# Altium footprint library Footprint.PcbLib: 139 footprints (part 5 of 9)
Each footprint in its own frame and in the unit in brackets; x right, y up, seen from the top. Pads: shape width x height; smd on the part's side, far side on the other; paste and mask are expansions set on the pad; w line width, h text height; cw(c..) or ccw(c..) is an arc to the next point about the centre after c.
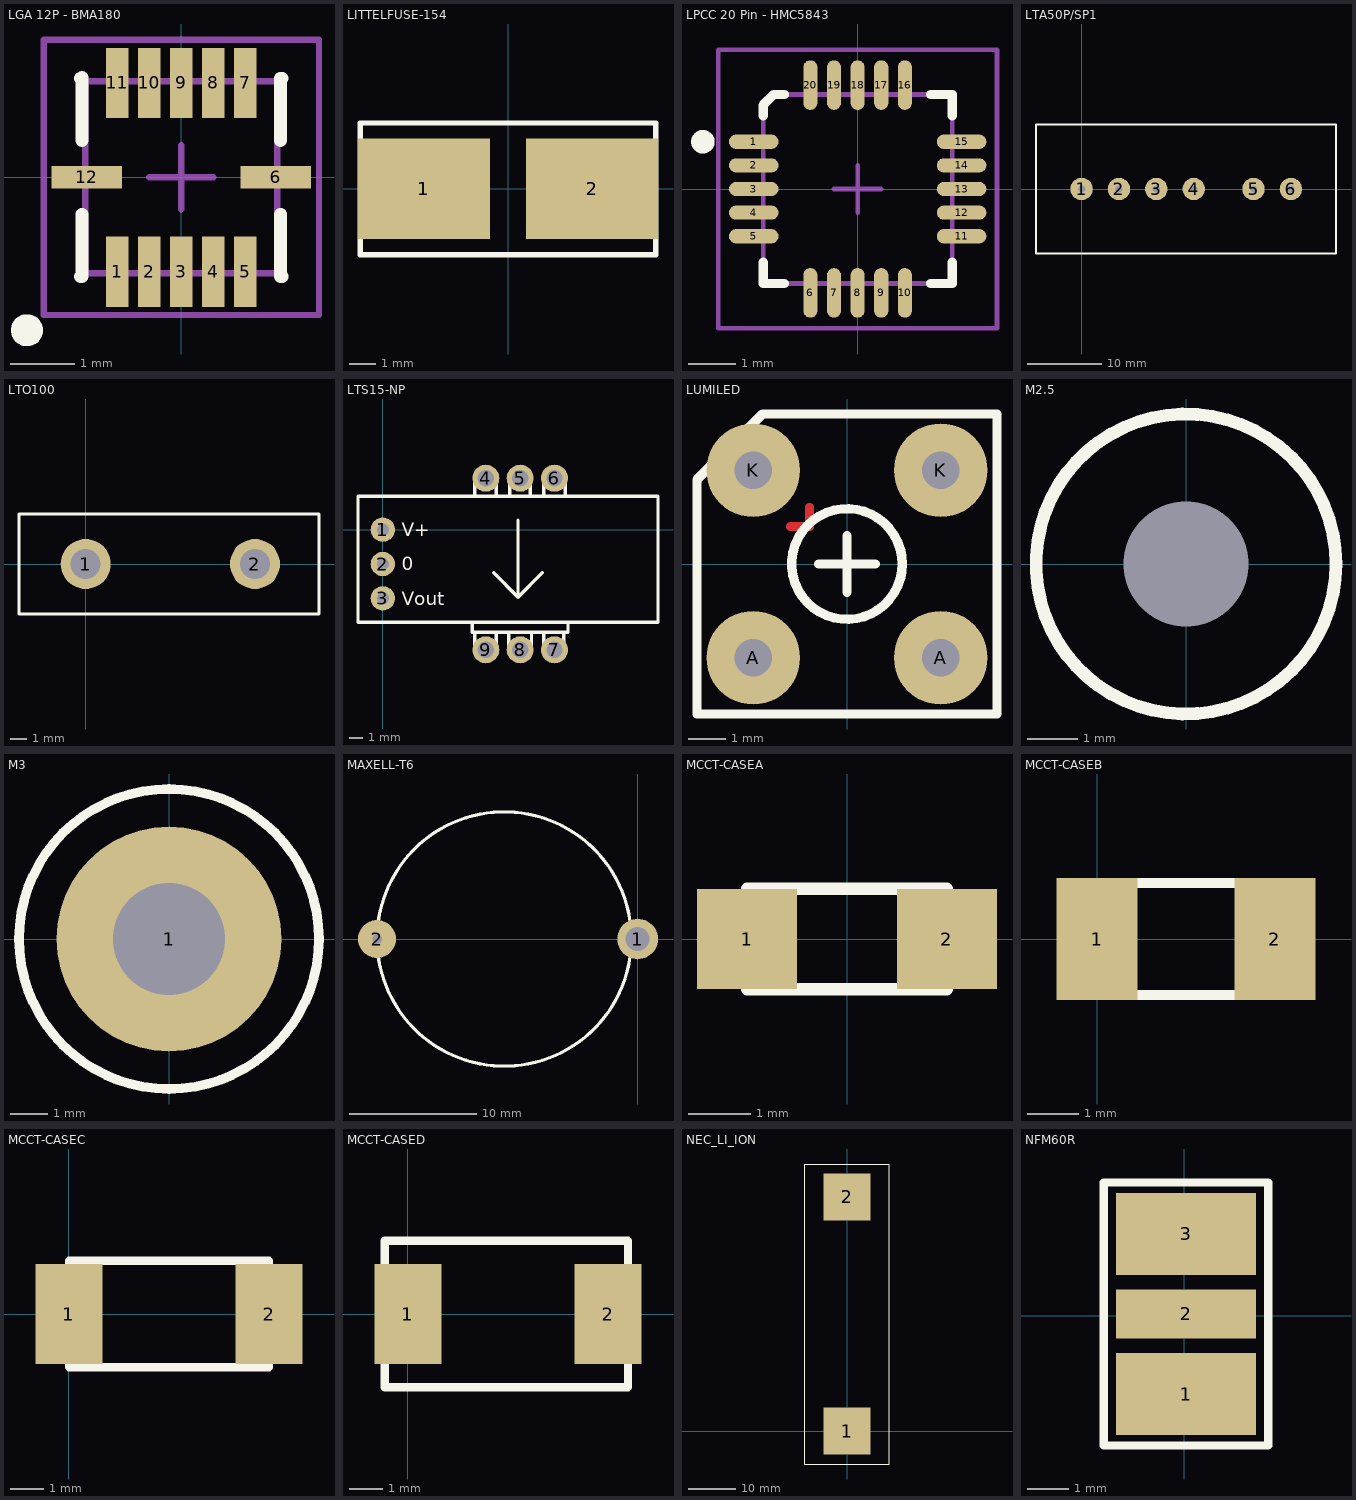
[diagram p4: the footprints below, top view; thin cyan lines are the x and y axes]

## LGA 12P - BMA180 [mm]
pads (12):
  rect 0.35x1.1 smd: 1(-1,-1.475) 2(-0.5,-1.475) 3(0,-1.475) 4(0.5,-1.475) 5(1,-1.475) 7(1,1.475) 8(0.5,1.475) 9(0,1.475) 10(-0.5,1.475) 11(-1,1.475)
  rect 1.1x0.35 smd: 6(1.475,0) 12(-1.475,0)
TopOverlay:
  circle w0.25: c-2.411,-2.388 r0.125
  lines w0.2: -1.575,-1.55 -1.55,-1.55 -1.55,-0.575 ; -1.575,1.55 -1.563,1.55 -1.55,1.563 -1.55,0.575 ; 1.55,-0.575 1.55,-1.55 1.575,-1.55 ; 1.55,0.575 1.55,1.55 1.575,1.55
Mechanical13:
  lines w0.1: -1.513,1.5 -1.5,1.513 -1.5,-1.5 1.5,-1.5 1.5,1.5 -1.513,1.5
Mechanical15:
  lines w0.1: -0.5,0 0.5,0 ; 0,-0.5 0,0.5 ; -2.15,-2.15 2.15,-2.15 2.15,2.15 -2.15,2.15 -2.15,-2.15
3D body: height 1, standoff 0, extent -1.513,-1.5 1.5,1.513

## LITTELFUSE-154 [mm]
pads (2):
  rect 5x3.81 smd: 1(-3.185,0) 2(3.185,0)
TopOverlay:
  lines w0.2: -5.6,-2.51 -5.6,0 ; -5.6,-2.5 5.6,-2.5 5.6,2.5 -5.6,2.5 -5.6,-0.01

## LPCC 20 Pin - HMC5843 [mm]
pads (20):
  oval 1.05x0.3 smd: 1(-2.2,1) 2(-2.2,0.5) 3(-2.2,0) 4(-2.2,-0.5) 5(-2.2,-1) 11(2.2,-1) 12(2.2,-0.5) 13(2.2,0) 14(2.2,0.5) 15(2.2,1)
  oval 0.3x1.05 smd: 6(-1,-2.2) 7(-0.5,-2.2) 8(0,-2.2) 9(0.5,-2.2) 10(1,-2.2) 16(1,2.2) 17(0.5,2.2) 18(0,2.2) 19(-0.5,2.2) 20(-1,2.2)
TopOverlay:
  circle w0.25: c-3.275,1 r0.125
  lines w0.2: -2,-1.55 -2,-2 -1.55,-2 ; -2,1.55 -2,1.775 -1.775,2 -1.55,2 ; 1.55,-2 2,-2 2,-1.55 ; 1.55,2 2,2 2,1.55
Mechanical13:
  lines w0.1: -2,-2 -2,1.775 -1.775,2 2,2 2,-2 -2,-2
Mechanical15:
  lines w0.1: -0.5,0 0.5,0 ; 0,-0.5 0,0.5 ; -2.95,-2.95 -2.95,2.95 2.95,2.95 2.95,-2.95 -2.95,-2.95
3D body: height 1.46, standoff 0, extent -2,-2 2,2

## LTA50P/SP1 [mm]
pads (6):
  round 3 hole 1: 1(0,0) 2(5,0) 3(10,0) 4(15,0) 5(23,0) 6(28,0)
TopOverlay:
  lines w0.254: -6.096,-8.636 -6.096,8.636 34.036,8.636 34.036,-8.636 -6.096,-8.636

## LTO100 [mm]
height 36
pads (2):
  round 3 hole 1.8: 1(0,0) 2(10.16,0)
TopOverlay:
  lines w0.2: -4,-3 14,-3 14,3 -4,3 -4,-3

## LTS15-NP [mm]
pads (9):
  round 1.8 hole 0.9: 1(0,0) 2(0,-2.54) 3(0,-5.08)
  round 2 hole 1.2: 4(7.62,3.81) 5(10.16,3.81) 6(12.7,3.81) 7(12.7,-8.89) 8(10.16,-8.89) 9(7.62,-8.89)
TopOverlay:
  lines w0.254: 6.6,-6.84 6.6,-7.6 13.7,-7.6 13.7,-6.84 ; 6.8,-8.9 6.8,-7.6 ; 6.8,2.46 6.8,3.8 ; 8.2,-3.2 10,-5 ; 8.4,-8.9 8.4,-7.6 ; 8.4,2.46 8.4,3.8 ; 9.3,-7.6 9.3,-8.9 11,-8.9 11,-7.6 ; 9.3,3.8 11,3.8 ; 9.4,2.46 9.4,3.8 ; 10,0.7 10,-5 ; 10.9,2.46 10.9,3.8 ; 11.8,-3.2 10,-5 ; 11.9,-8.9 11.9,-7.6 ; 11.9,2.46 11.9,3.8 ; 13.4,-8.8 13.4,-7.6 ; 13.5,2.46 13.5,3.8 ; -1.84,-6.84 -1.84,2.46 20.36,2.46 20.36,-6.84 -1.84,-6.84
  text "Vout" at 1.4,-5.6 h1
  text "0" at 1.4,-3 h1
  text "V+" at 1.4,-0.5 h1

## LUMILED [mil]
pads (4):
  round 100 hole 40: A(-100,-100) A(100,-100) K(-100,100) K(100,100)
TopLayer:
  lines w10: -60,40 -40,40 -40,60
BottomLayer:
  lines w10: -60,40 -40,40 -40,60
TopOverlay:
  circle w10: c0,0 r59
  lines w10: -30,0 30,0 ; 0,-30 0,30 ; -160,-160 -160,90 -90,160 160,160 160,-160 -160,-160

## M2.5 [mm]
pads (1):
  round 0 hole 2.5: 1(0,0)
TopOverlay:
  circle w0.254: c0,0 r3

## M3 [mm]
pads (1):
  round 6 hole 3: 1(0,0)
TopOverlay:
  circle w0.254: c0,0 r4

## MAXELL-T6 [mm]
pads (2):
  round 3.2 hole 1.9: 1(0,0)
  round 3 hole 0.75: 2(-20.5,0)
TopOverlay:
  circle w0.254: c-10.5,0 r10

## MCCT-CASEA [mm]
pads (2):
  rect 1.6x1.6 smd: 1(-1.6,0) 2(1.6,0)
TopOverlay:
  lines w0.2: -1.6,-0.8 -1.6,0 -1.6,0.8 1.6,0.8 1.6,-0.8 -1.6,-0.8

## MCCT-CASEB [mm]
pads (2):
  rect 1.6x2.4 smd: 1(0,0) 2(3.5,0)
TopOverlay:
  lines w0.2: 0,-1.1 0,0 0,1.1 3.5,1.1 3.5,-1.1 0,-1.1

## MCCT-CASEC [mm]
pads (2):
  rect 2x3 smd: 1(0,0) 2(6,0)
TopOverlay:
  lines w0.254: 0,-1.6 6,-1.6 6,1.6 0,1.6 0,-1.6

## MCCT-CASED [mm]
pads (2):
  rect 2x3 smd: 1(0,0) 2(6,0)
TopOverlay:
  lines w0.254: -0.7,-2.2 6.6,-2.2 6.6,2.2 -0.7,2.2 -0.7,-2.2

## NEC_LI_ION [mm]
pads (2):
  rect 10x10 smd: 1(0,0) 2(0,50)
TopOverlay:
  lines w0.254: -9,-7 9,-7 9,57 -9,57 -9,-7

## NFM60R [mm]
pads (3):
  rect 3.4x2 smd: 1(0.04,-1.91) 3(0.04,1.99)
  rect 3.4x1.2 smd: 2(0.04,0.04)
TopOverlay:
  lines w0.2: -1.96,-3.16 2.04,-3.16 2.04,3.24 -1.96,3.24 -1.96,-3.16